# Altium footprint library MSP430PCB.PcbLib: 42 footprints (part 2 of 3)
Each footprint in its own frame and in the unit in brackets; x right, y up, seen from the top. Pads: shape width x height; smd on the part's side, far side on the other; paste and mask are expansions set on the pad; w line width, h text height; cw(c..) or ccw(c..) is an arc to the next point about the centre after c.
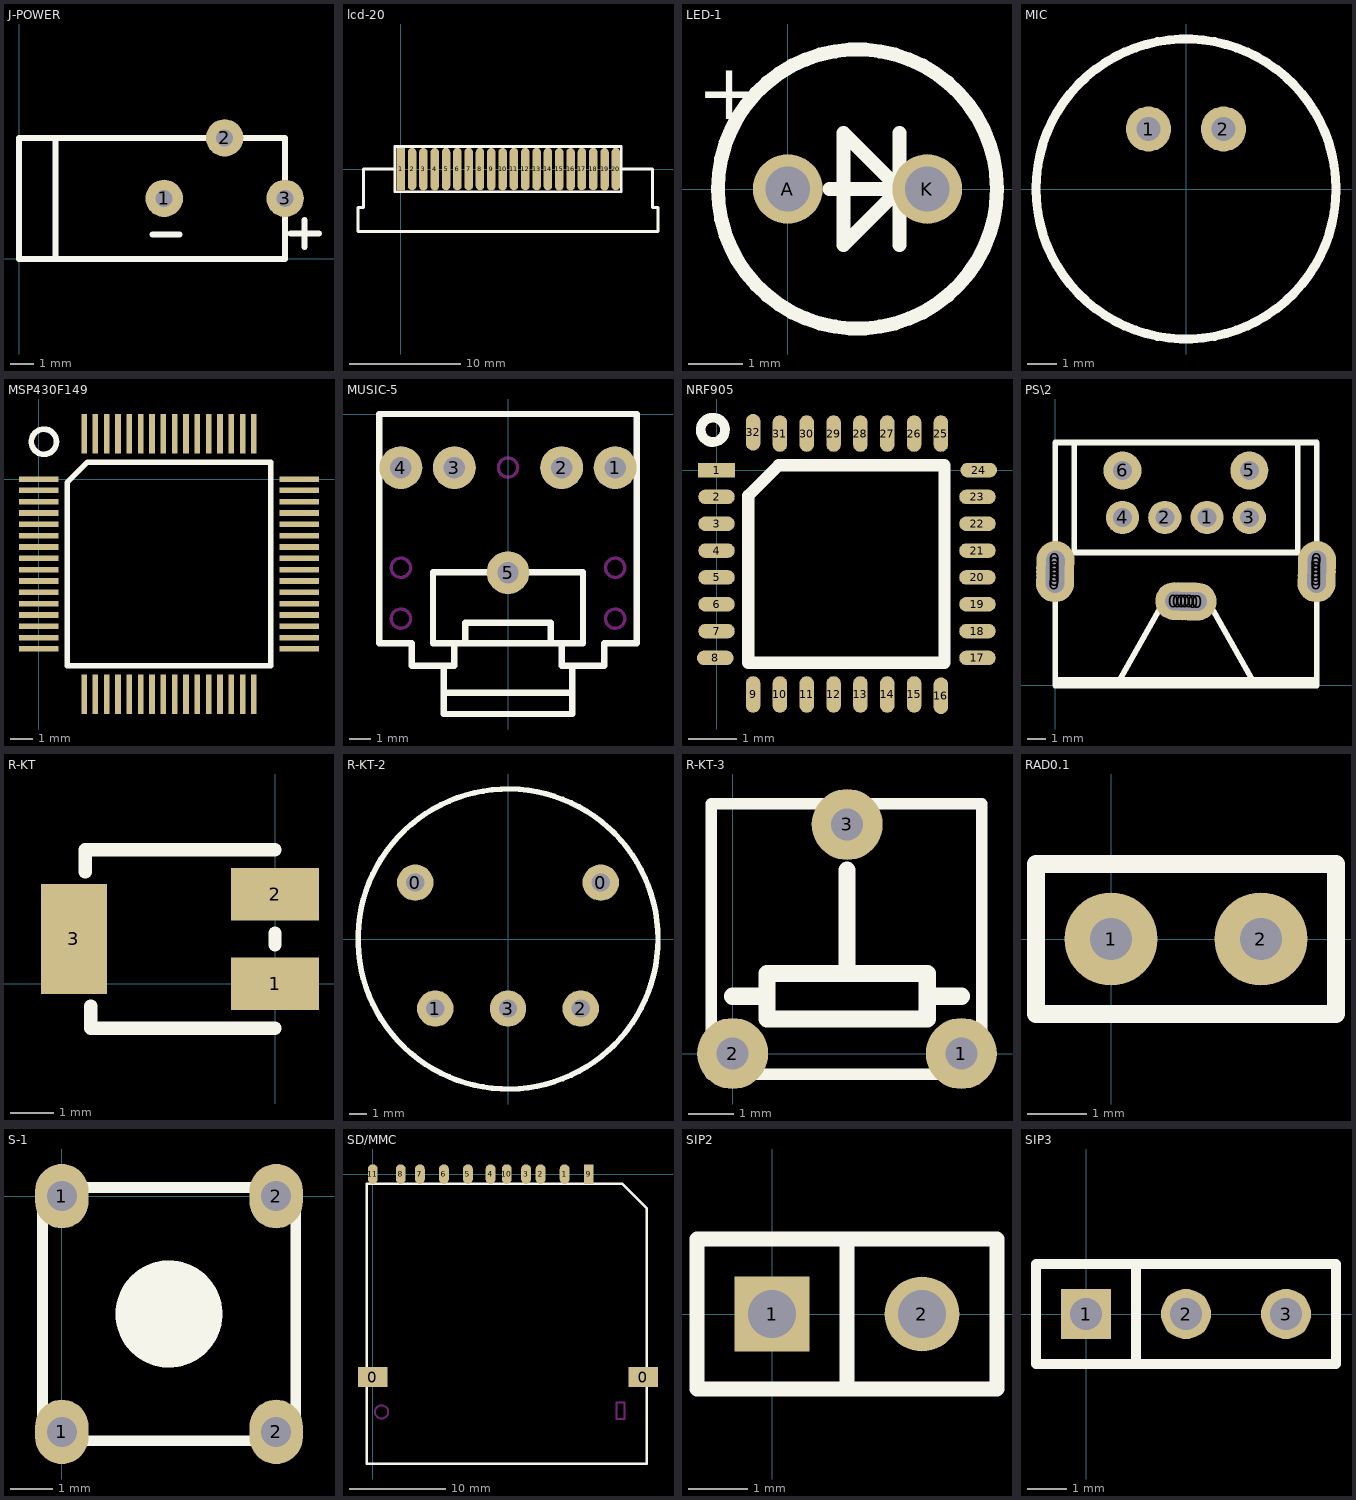
[diagram p1: the footprints below, top view; thin cyan lines are the x and y axes]

## J-POWER [mil]
pads (3):
  round 62 hole 28: 1(240,100) 2(340,200) 3(440,100)
Top Overlay:
  lines w10: 60,0 60,200 ; 221,40 265,40 ; 449,42 496,42 ; 472,20 472,64 ; 0,0 440,0 440,200 0,200 0,0

## lcd-20 [mil]
pads (20):
  rect 30x150 smd: 1(0,0)
  oval 30x150 smd: 2(40,0) 3(80,-1) 4(120,-1) 5(160,0) 6(200,0) 7(240,0) 8(280,0) 9(320,-1) 10(360,-1) 11(400,0) 12(440,0) 13(480,0) 14(520,0) 15(560,-1) 16(600,-1) 17(640,0) 18(680,0) 19(720,-1) 20(760,0)
Top Overlay:
  lines w10: -131,-1 -131,-136 -151,-136 -151,-221 909,-221 909,-136 889,-136 889,-1 ; -131,0 -21,0 ; 779,0 889,0 ; -21,-80 779,-80 779,80 -21,80 -21,-80

## LED-1 [mil]
pads (2):
  round 50 hole 32: A(0,0) K(100,0)
Top Overlay:
  circle w10: c50,0 r100
  lines w10: 30,0 80,0 ; 80,-40 80,40 ; 80,0 40,-40 40,40 80,0
  text "+" at -65,50 h40

## MIC [mil]
pads (2):
  round 60 hole 32: 1(-50,80) 2(50,80)
Top Overlay:
  circle w12: c0,0 r200

## MSP430F149 [mil]
pads (64):
  rect 70x10 smd: 1(0,0) 2(0,-20) 3(0,-40) 4(0,-60) 5(0,-80) 6(0,-100) 7(0,-120) 8(0,-140) 9(0,-160) 10(0,-180) 11(0,-200) 12(0,-220) 13(0,-240) 14(0,-260) 15(0,-280) 16(0,-300) 33(460,-300) 34(460,-280) 35(460,-260) 36(460,-240) 37(460,-220) 38(460,-200) 39(460,-180) 40(460,-160) 41(460,-140) 42(460,-120) 43(460,-100) 44(460,-80) 45(460,-60) 46(460,-40) 47(460,-20) 48(460,0)
  rect 10x70 smd: 17(80,-380) 18(100,-380) 19(120,-380) 20(140,-380) 21(160,-380) 22(180,-380) 23(200,-380) 24(220,-380) 25(240,-380) 26(260,-380) 27(280,-380) 28(300,-380) 29(320,-380) 30(340,-380) 31(360,-380) 32(380,-380) 49(380,80) 50(360,80) 51(340,80) 52(320,80) 53(300,80) 54(280,80) 55(260,80) 56(240,80) 57(220,80) 58(200,80) 59(180,80) 60(160,80) 61(140,80) 62(120,80) 63(100,80) 64(80,80)
Top Overlay:
  circle w10: c9,66 r22.2
  lines w10: 50,-330 410,-330 410,30 86,30 50,-6 50,-330

## MUSIC-5 [mil]
pads (5):
  round 80 hole 40: 1(200,-100) 2(100,-100) 3(-100,-100) 4(-200,-100) 5(0,-296)
Top Overlay:
  lines w12: -120,-520 120,-520 ; -120,-470 -120,-560 120,-560 120,-470 ; -100,-428 -100,-470 -180,-470 -180,-428 -240,-428 -240,0 240,0 240,-428 180,-428 180,-470 100,-470 100,-428 ; -80,-428 -80,-390 80,-390 80,-428 ; 140,-296 140,-428 -140,-428 -140,-295 140,-295
Keep-Out Layer:
  circle w6: c-200,-287 r18
  circle w6: c-200,-382 r18
  circle w6: c200,-287 r18
  circle w6: c0,-100 r18
  circle w6: c200,-382 r18

## NRF905 [mil]
pads (32):
  rect 30x12 smd: 1(0,0)
  oval 30x12 smd: 2(0,-22) 3(0,-44) 4(0,-66) 5(0,-88) 6(0,-110) 7(0,-132) 8(-1,-154) 17(214,-154) 18(214,-132) 19(214,-110) 20(214,-88) 21(214,-66) 22(214,-44) 23(214,-22) 24(215,0)
  oval 12x30 smd: 9(30,-184) 10(52,-184) 11(74,-184) 12(96,-184) 13(118,-184) 14(140,-184) 15(162,-184) 16(184,-185) 25(184,30) 26(162,30) 27(140,30) 28(118,30) 29(96,30) 30(74,30) 31(52,30) 32(30,31)
Top Overlay:
  lines w8: 7,33 cw(c-3,33) 6.98,33.62
  lines w10: 184,-158 26,-158 ; 26,-158 26,-21 51,4 187,4 187,-158 26,-158

## PS\2 [mil]
pads (27):
  round 80 hole 40: 0(-0.33,215.13) 0(0,223) 0(0,231.59) 0(0,248) 0(0.17,239.82) 0(0.5,256.27) 0(0.66,264.5) 0(250.91,177.66) 0(259.13,177.5) 0(267.36,177.33) 0(275.59,177.16) 0(283.82,177) 0(292.05,176.83) 0(300.27,176.67) 0(550.67,215.13) 0(550.83,223.36) 0(551,231.59) 0(551.16,239.82) 0(551.33,248.05) 0(551.5,256.27) 0(551.66,264.5) 5(409,453) 6(142,453)
  round 70 hole 40: 1(320,354) 2(231,354) 3(409,354) 4(142,354)
Top Overlay:
  rectangle: 0,0 551.18,18
  lines w12: 40,511.81 40,280 511,280 511,511.81 ; 129,0 227,174 ; 324.18,174 422.18,0 ; 0,0 0,511.81 551.18,511.81 551.18,0 0,0

## R-KT [mm]
pads (3):
  rect 2x1.2 smd: 1(0,0) 2(0,2.032)
  rect 1.5x2.5 smd: 3(-4.572,1.016)
Top Overlay:
  lines w0.305: -4.318,2.54 -4.318,3.048 0,3.048 ; -4.191,-0.508 -4.191,-1.016 0,-1.016 ; 0,0.889 0,1.143

## R-KT-2 [mil]
pads (5):
  round 80 hole 40: 0(-204,124) 0(204,124) 1(-160,-153) 2(160,-153) 3(0,-153)
Top Overlay:
  circle w12: c0,0 r330

## R-KT-3 [mil]
pads (3):
  round 62 hole 28: 1(199.78,0) 2(0,0) 3(100,200)
Top Overlay:
  lines w10: -19,-18 217.22,-18 ; -18.78,-18 -18.78,218.22 217.44,218.22 217.44,-18
  lines w15: 0,50 30,50 ; 100,70 100,160 ; 170,50 200,50 ; 30,30 170,30 170,70 30,70 30,30

## RAD0.1 [mil]
pads (2):
  round 62 hole 28: 1(0,0) 2(100,0)
Top Overlay:
  lines w12: -50,-50 -50,50 150,50 150,-50 -50,-50

## S-1 [mil]
pads (4):
  oval 50x60 hole 28: 1(0,-220) 1(0,0) 2(200,-220) 2(200,0)
Top Overlay:
  circle w50: c100,-110 r25
  lines w10: -18,-228.22 218.22,-228.22 218.22,8 -18,8 -18,-228.22

## SD/MMC [mil]
pads (13):
  rect 120x80 smd: 0(0,-826.77) 0(1102.36,-826.77)
  oval 40x80 smd: 1(782,0) 2(684,0) 3(625,0) 4(480,0) 5(388,0) 6(290,0) 7(192,0) 8(114,0) 10(546,0) 11(0,0)
  rect 40x80 smd: 9(880,0)
Top Overlay:
  lines w10: -25,-1180 1117,-1180 1117,-140 1017,-40 -25,-40 -25,-1180
Keep-Out Layer:
  circle w8: c36,-969 r27
  lines w8: 993,-998 993,-931 1025,-931 1025,-998 993,-998

## SIP2 [mil]
pads (2):
  rect 50x50 hole 32: 1(0,0)
  round 50 hole 32: 2(100,0)
Top Overlay:
  lines w10: 50,-50 50,50 ; -50,-50 150,-50 150,50 -50,50 -50,-50

## SIP3 [mil]
pads (3):
  rect 50x50 hole 32: 1(0,0)
  round 50 hole 32: 2(100,0) 3(200,0)
Top Overlay:
  lines w10: 50,-50 50,50 ; -50,-50 -50,50 250,50 250,-50 -50,-50